# Altium footprint library Testpoint.PcbLib: 4 footprints
Each footprint in its own frame and in the unit in brackets; x right, y up, seen from the top. Pads: shape width x height; smd on the part's side, far side on the other; paste and mask are expansions set on the pad; w line width, h text height; cw(c..) or ccw(c..) is an arc to the next point about the centre after c.
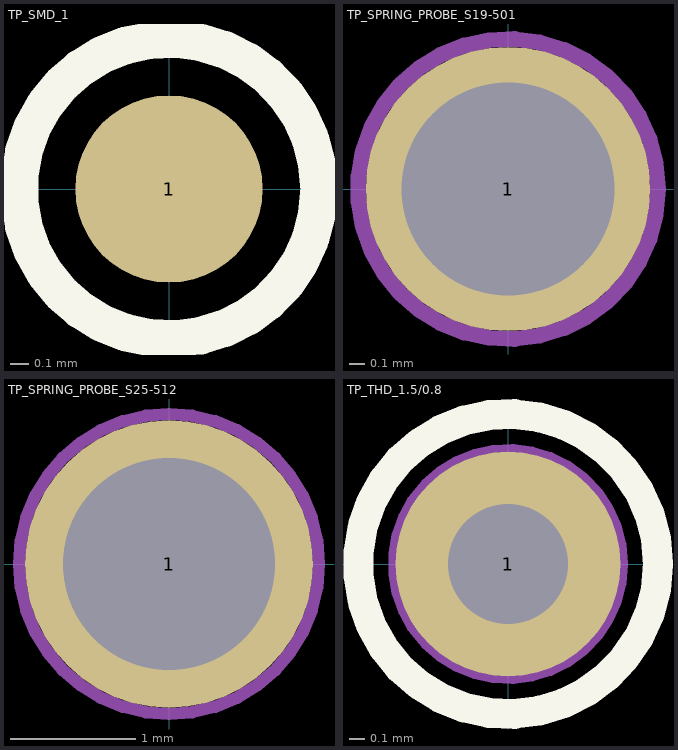
[diagram p0: the footprints below, top view; thin cyan lines are the x and y axes]

## TP_SMD_1 [mm] "Testpoint SMD 1mm"
pads (1):
  round 1 smd: 1(0,0)
Top Overlay:
  circle w0.2: c0,0 r0.8

## TP_SPRING_PROBE_S19-501 [mm] "Harwin Spring probe sleeve 1.9mm S19-501"
pads (1):
  round 1.8 hole 1.35: 1(0,0)
Top Assembly:
  circle w0.1: c0,0 r0.95
Bottom Assembly (Mech12):
  circle w0.1: c0,0 r0.95
3D body: height -10.2, standoff -14.9, extent -0.6,-0.6 0.6,0.6
3D body: height 0.5, standoff 0, extent -0.72,-0.72 0.72,0.72
3D body: height 2.5, standoff -10.2, extent -0.66,-0.66 0.66,0.66
3D body: height -9.7, standoff -10.2, extent -0.66,-0.66 0.66,0.66

## TP_SPRING_PROBE_S25-512 [mm] "Harwin Spring probe sleeve 2.54mm S25-512"
pads (1):
  round 2.3 hole 1.7: 1(0,0)
Top Assembly:
  circle w0.1: c0,0 r1.2
Bottom Assembly (Mech12):
  circle w0.1: c0,0 r1.2
3D body: height 5.5, standoff -13, extent -0.83,-0.83 0.83,0.83
3D body: height 0.5, standoff 0, extent -0.92,-0.92 0.92,0.92
3D body: height -13, standoff -18.2, extent -0.74,-0.74 0.74,0.74
3D body: height -12.5, standoff -13, extent -0.83,-0.83 0.83,0.83

## TP_THD_1.5/0.8 [mm] "Testpoint THD 1.5mm / 0.8mm"
pads (1):
  round 1.5 hole 0.8: 1(0,0)
Top Overlay:
  circle w0.2: c0,0 r1
Bottom Assembly (Mech12):
  circle w0.1: c0,0 r0.75